# Altium schematic symbol library lan7800.SchLib: 1 symbol
Pins are listed as number, name and electrical type; pins without a type are passive.

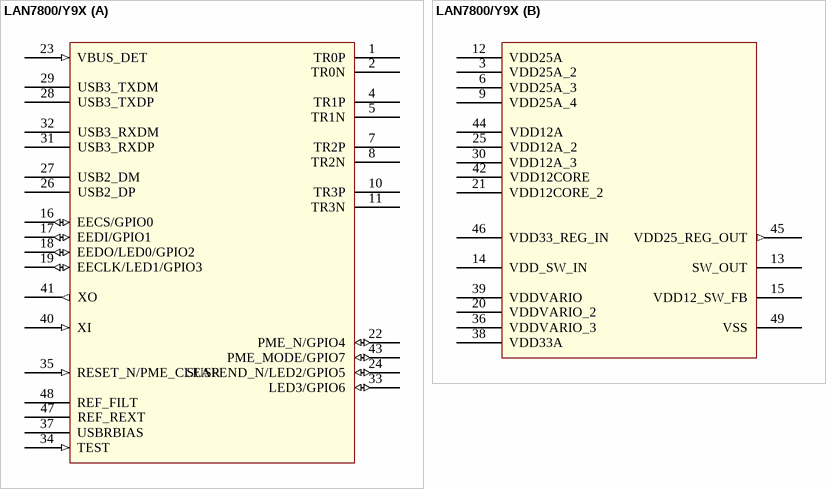
[diagram p0: symbol LAN7800/Y9X]

## LAN7800/Y9X
designator U?  (value not drawn)
Mfr_Name: Microchip; C: Copyright (C) 2018 Accelerated Designs. All rights reserved; Value: LAN7800/Y9X; Copyright: Copyright (C) 2022 Ultra Librarian. All rights reserved.; Manufacturer_Part_Number: LAN7800/Y9X
footprint SQFN48_7X7_Y9X_M
part A pins: 1 TR0P, 2 TR0N, 4 TR1P, 5 TR1N, 7 TR2P, 8 TR2N, 10 TR3P, 11 TR3N, 16 EECS/GPIO0 (io), 17 EEDI/GPIO1 (io), 18 EEDO/LED0/GPIO2 (io), 19 EECLK/LED1/GPIO3 (io), 22 PME_N/GPIO4 (io), 23 VBUS_DET (in), 24 SUSPEND_N/LED2/GPIO5 (io), 26 USB2_DP, 27 USB2_DM, 28 USB3_TXDP, 29 USB3_TXDM, 31 USB3_RXDP, 32 USB3_RXDM, 33 LED3/GPIO6 (io), 34 TEST (in), 35 RESET_N/PME_CLEAR (in), 37 USBRBIAS, 40 XI (in), 41 XO (out), 43 PME_MODE/GPIO7 (io), 47 REF_REXT, 48 REF_FILT
part B pins: 3 VDD25A_2 (power), 6 VDD25A_3 (power), 9 VDD25A_4 (power), 12 VDD25A (power), 13 SW_OUT (power), 14 VDD_SW_IN (power), 15 VDD12_SW_FB (power), 20 VDDVARIO_2 (power), 21 VDD12CORE_2 (power), 25 VDD12A_2 (power), 30 VDD12A_3 (power), 36 VDDVARIO_3 (power), 38 VDD33A (power), 39 VDDVARIO (power), 42 VDD12CORE (power), 44 VDD12A (power), 45 VDD25_REG_OUT (out), 46 VDD33_REG_IN (power), 49 VSS (power)